# EAGLE library part WE-LAN_7490140124 (library WE-LAN)
WE-LAN LAN Transformer 10/100 Base-T Characteristics Power over Ethernet up to 150 Watts and speeds up to 1 Gbit/s Available in SMD Compliant with standards: IEEE 802.3u, IEEE 802.3ab, IEEE 802.3af, IEEE 802.3at and upcoming IEEE 802.3bt Applications Suitable for industrial temperatures from –40 °C up to +125 °C Compatible to Industrial Ethernet systems like EtherCAT or Profinet Compliant with most IC’s for Ethernet applications such as Microchip, Texas Instruments, Broadcom, Linear Technology Hubs, Routers, Switches, IP cameras, IoT applications <https://www.we-online.com/catalog/media/o14800v209%20WE-LAN%20-%20Kopie.jpg> Details see: https://www.we-online.com/catalog/en/WE-LAN/ Created by Ella Wu, 2020-07-08 2020 (C) Würth Elektronik
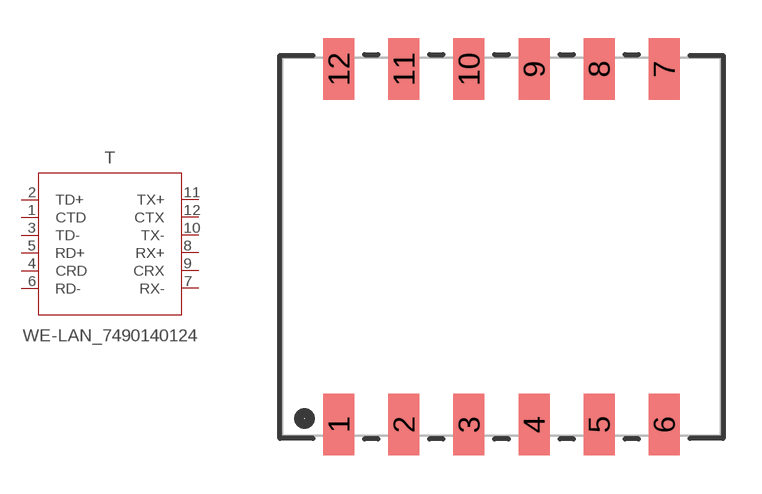
[diagram p46: symbol with the pads of WE-LAN_7490140124; footprint WE-LAN_7490140124]

Designator prefix T

## WE-LAN_7490140124 (DATA-RATE: 10/100 Base-T; DATASHEET-URL: https://www.we-online.com/catalog/datasheet/7490140124.pdf; HPLE: No; L: 350uH; MOUNT: SMT; PART-NUMBER: 7490140124; POE: non-PoE; VALUE: 7490140124; VT: 1500 V (RMS))  [WE-LAN_7490140124]
1  CTD  pas
2  TD+  pas
3  TD-  pas
4  CRD  pas
5  RD+  pas
6  RD-  pas
7  RX-  pas
8  RX+  pas
9  CRX  pas
10  TX-  pas
11  TX+  pas
12  CTX  pas

## Footprint WE-LAN_7490140124 (pad centres in mm)
WE-LAN 100BT 1 Port PoE+ SMD Transformer,12Pins
smd 1.21 x 2.4: 1 -6.35,-6.935; 2 -3.81,-6.935; 3 -1.27,-6.935; 4 1.27,-6.935; 5 3.81,-6.935; 6 6.35,-6.935; 7 6.35,6.935; 8 3.81,6.935; 9 1.27,6.935; 10 -1.27,6.935; 11 -3.81,6.935; 12 -6.35,6.935